# Altium footprint library Inductor_THT.PcbLib: 1 footprints
Each footprint in its own frame and in the unit in brackets; x right, y up, seen from the top. Pads: shape width x height; smd on the part's side, far side on the other; paste and mask are expansions set on the pad; w line width, h text height; cw(c..) or ccw(c..) is an arc to the next point about the centre after c.
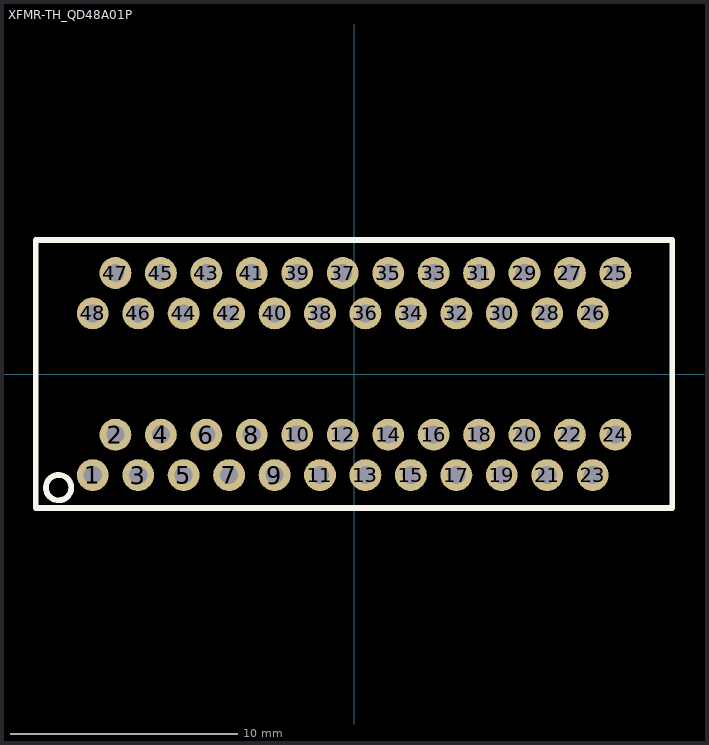
[diagram p0: the footprint, top view; thin cyan lines are the x and y axes]

## XFMR-TH_QD48A01P [mm]
pads (48):
  round 1.4 hole 0.8: 1(-11.5,-4.445) 2(-10.5,-2.665) 3(-9.5,-4.445) 4(-8.5,-2.665) 5(-7.5,-4.445) 6(-6.5,-2.665) 7(-5.5,-4.445) 8(-4.5,-2.665) 9(-3.5,-4.445) 10(-2.5,-2.665) 11(-1.5,-4.445) 12(-0.5,-2.665) 13(0.5,-4.445) 14(1.5,-2.665) 15(2.5,-4.445) 16(3.5,-2.665) 17(4.5,-4.445) 18(5.5,-2.665) 19(6.5,-4.445) 20(7.5,-2.665) 21(8.5,-4.445) 22(9.5,-2.665) 23(10.5,-4.445) 24(11.5,-2.665) 25(11.5,4.445) 26(10.5,2.665) 27(9.5,4.445) 28(8.5,2.665) 29(7.5,4.445) 30(6.5,2.665) 31(5.5,4.445) 32(4.5,2.665) 33(3.5,4.445) 34(2.5,2.665) 35(1.5,4.445) 36(0.5,2.665) 37(-0.5,4.445) 38(-1.5,2.665) 39(-2.5,4.445) 40(-3.5,2.665) 41(-4.5,4.445) 42(-5.5,2.665) 43(-6.5,4.445) 44(-7.5,2.665) 45(-8.5,4.445) 46(-9.5,2.665) 47(-10.5,4.445) 48(-11.5,2.665)
Top Overlay:
  circle w0.254: c-13.002,-5 r0.559
  lines w0.254: -14.005,5.902 -14.005,-5.898 13.995,-5.898 ; -14.002,5.9 13.998,5.9 13.998,-5.9
3D body: height 11, standoff 0, extent -14,-5.65 14,5.65